# Altium footprint library 研发中心PCB库文件.PcbLib: 333 footprints (part 4 of 21)
Each footprint in its own frame and in the unit in brackets; x right, y up, seen from the top. Pads: shape width x height; smd on the part's side, far side on the other; paste and mask are expansions set on the pad; w line width, h text height; cw(c..) or ccw(c..) is an arc to the next point about the centre after c.
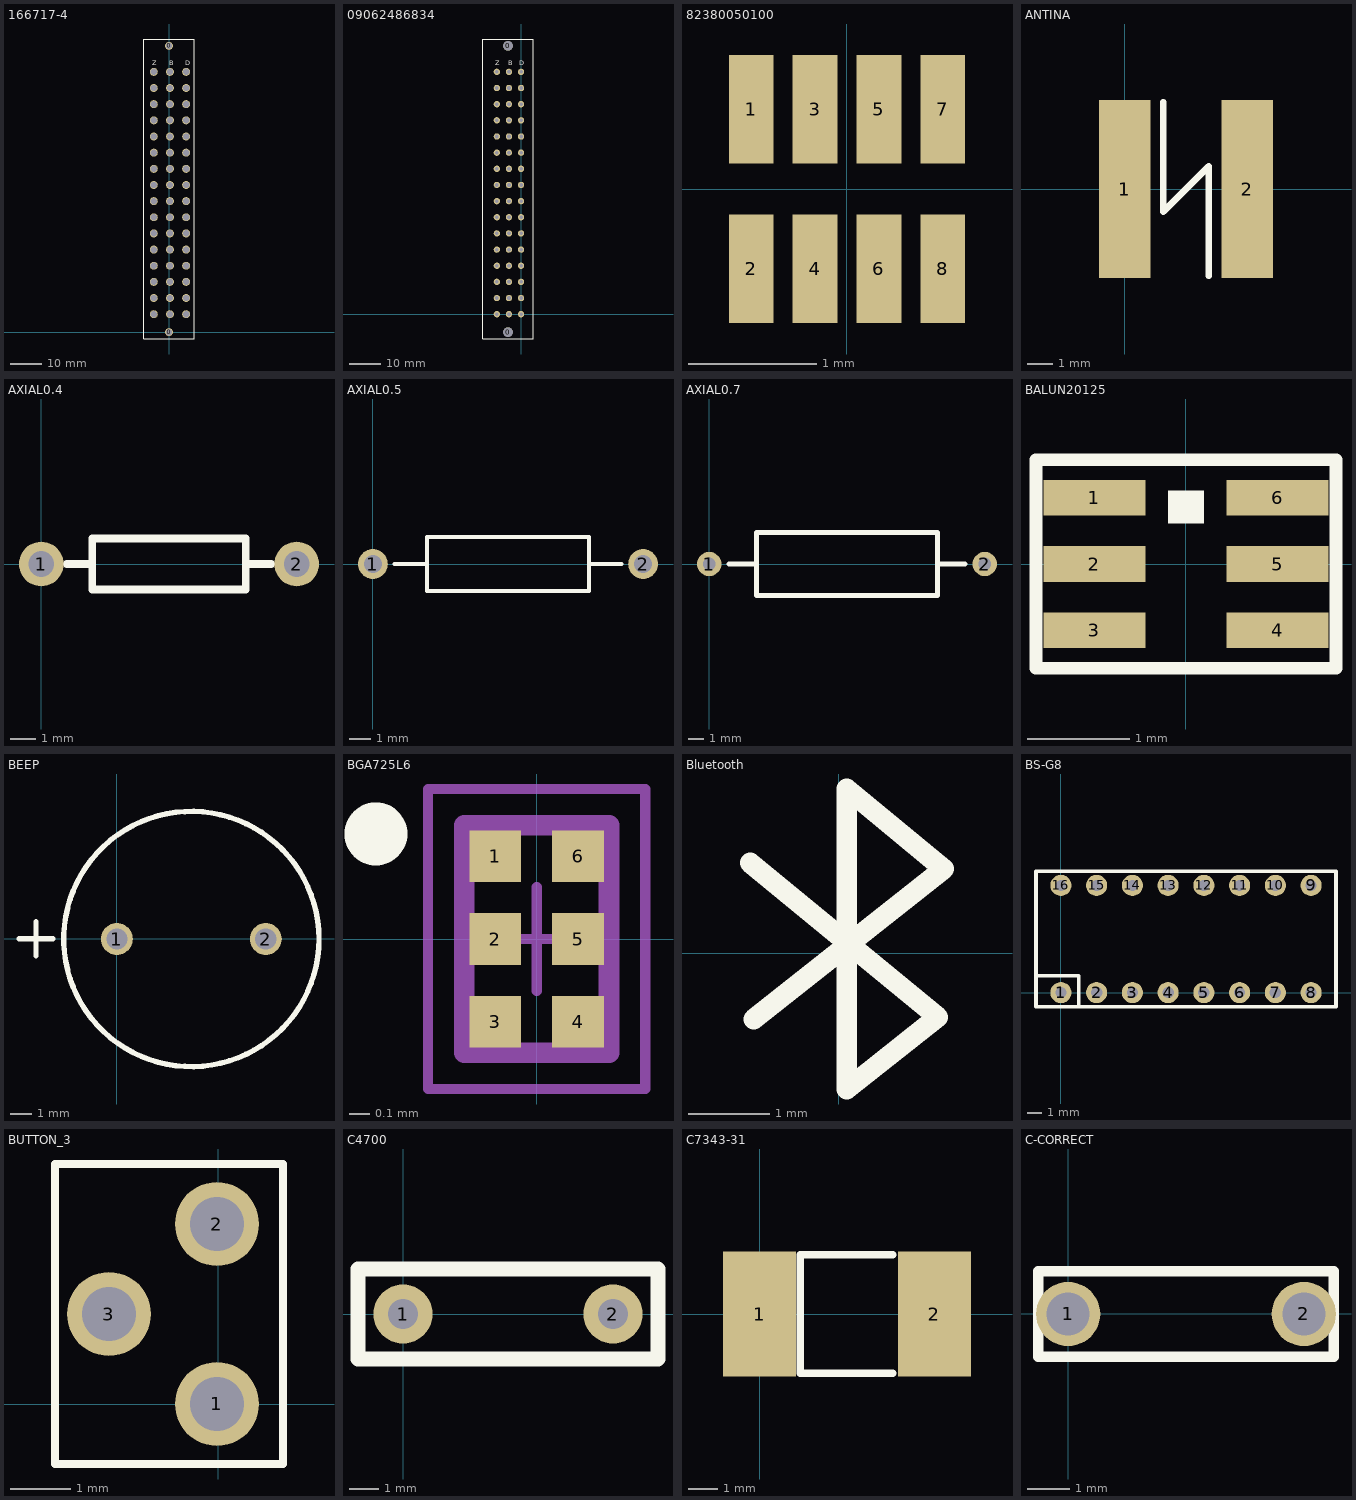
[diagram p3: the footprints below, top view; thin cyan lines are the x and y axes]

## 166717-4 [mm]
pads (50):
  round 2.5 hole 2: 0(0,0) 0(0,90) B2(0.3,81.83) B4(0.3,76.75) B6(0.3,71.67) B8(0.3,66.59) B10(0.3,61.51) B12(0.3,56.43) B14(0.3,51.35) B16(0.3,46.27) B18(0.3,41.19) B20(0.3,36.11) B22(0.3,31.03) B24(0.3,25.95) B26(0.3,20.87) B28(0.3,15.79) B30(0.3,10.71) B32(0.3,5.63) D2(5.38,81.83) D4(5.38,76.75) D6(5.38,71.67) D8(5.38,66.59) D10(5.38,61.51) D12(5.38,56.43) D14(5.38,51.35) D16(5.38,46.27) D18(5.38,41.19) D20(5.38,36.11) D22(5.38,31.03) D24(5.38,25.95) D26(5.38,20.87) D28(5.38,15.79) D30(5.38,10.71) D32(5.38,5.63) Z2(-4.78,81.83) Z4(-4.78,76.75) Z6(-4.78,71.67) Z8(-4.78,66.59) Z10(-4.78,61.51) Z12(-4.78,56.43) Z14(-4.78,51.35) Z16(-4.78,46.27) Z18(-4.78,41.19) Z20(-4.78,36.11) Z22(-4.78,31.03) Z24(-4.78,25.95) Z26(-4.78,20.87) Z28(-4.78,15.79) Z30(-4.78,10.71) Z32(-4.78,5.63)
Top Overlay:
  lines w0.254: -7.89,-2.17 -7.89,92.17 7.89,92.17 7.89,-2.17 -7.89,-2.17
  text "D" at 5.108,83.862 h1.52
  text "B" at 0.046,83.862 h1.52
  text "Z" at -5.288,83.862 h1.52

## 09062486834 [mm]
pads (50):
  round 3 hole 3: 0(-4.11,-5.63) 0(-4.11,84.37)
  round 2 hole 1.143: B2(-3.81,76.2) B4(-3.81,71.12) B6(-3.81,66.04) B8(-3.81,60.96) B10(-3.81,55.88) B12(-3.81,50.8) B14(-3.81,45.72) B16(-3.81,40.64) B18(-3.81,35.56) B20(-3.81,30.48) B22(-3.81,25.4) B24(-3.81,20.32) B26(-3.81,15.24) B28(-3.81,10.16) B30(-3.81,5.08) B32(-3.81,0) D2(0,76.2) D4(0,71.12) D6(0,66.04) D8(0,60.96) D10(0,55.88) D12(0,50.8) D14(0,45.72) D16(0,40.64) D18(0,35.56) D20(0,30.48) D22(0,25.4) D24(0,20.32) D26(0,15.24) D28(0,10.16) D30(0,5.08) D32(0,0) Z2(-7.62,76.2) Z4(-7.62,71.12) Z6(-7.62,66.04) Z8(-7.62,60.96) Z10(-7.62,55.88) Z12(-7.62,50.8) Z14(-7.62,45.72) Z16(-7.62,40.64) Z18(-7.62,35.56) Z20(-7.62,30.48) Z22(-7.62,25.4) Z24(-7.62,20.32) Z26(-7.62,15.24) Z28(-7.62,10.16) Z30(-7.62,5.08) Z32(-7.62,0)
Top Overlay:
  lines w0.254: -12,-7.8 3.78,-7.8 3.78,86.54 -12,86.54 -12,-7.8
  text "Z" at -8.128,78.232 h1.52
  text "B" at -4.064,78.232 h1.52
  text "D" at -0.508,78.232 h1.52

## 82380050100 [mm]
pads (8):
  rect 0.35x0.85 smd: 1(-0.75,0.625) 2(-0.75,-0.625) 3(-0.25,0.625) 4(-0.25,-0.625) 5(0.25,0.625) 6(0.25,-0.625) 7(0.75,0.625) 8(0.75,-0.625)

## ANTINA [mil]
pads (2):
  rect 80x275.59 smd: 1(0,0) 2(190,0)
Top Overlay:
  lines w10: 60,135 60,0 60,-35 130,35 130,-135

## AXIAL0.4 [mil]
pads (2):
  round 70 hole 40: 1(0,0) 2(400,0)
Top Overlay:
  lines w12: 40,0 80,0 ; 320,0 360,0 ; 80,-40 320,-40 320,40 80,40 80,-40

## AXIAL0.5 [mm]
pads (2):
  round 1.4 hole 0.85: 1(0,0) 2(12.7,0)
Top Overlay:
  lines w0.2: 1.016,0 2.54,0 ; 10.16,0 11.684,0 ; 2.54,-1.27 2.54,1.27 10.16,1.27 10.16,-1.27 2.54,-1.27

## AXIAL0.7 [mil]
pads (2):
  round 62 hole 32: 1(0,0) 2(700,0)
Top Overlay:
  lines w12: 50,0 120,0 ; 580,0 650,0 ; 120,-80 580,-80 580,80 120,80 120,-80

## BALUN20125 [mm]
pads (6):
  rect 1x0.35 smd: 1(-0.9,0.65) 2(-0.9,0) 3(-0.9,-0.65) 4(0.9,-0.65) 5(0.9,0) 6(0.9,0.65)
Top Overlay:
  rectangle: -0.175,0.4 0.175,0.725
  lines w0.127: -1.475,-1.025 -1.475,1.025 1.475,1.025 1.475,-1.025 -1.475,-1.025

## BEEP [mm]
pads (2):
  round 1.5 hole 1: 1(0.004,-0.004) 2(7.004,-0.004)
Top Overlay:
  circle w0.254: c3.504,-0.004 r6
  lines w0.254: -4.6,0 -3,0 ; -3.8,-0.8 -3.8,0.8

## BGA725L6 [mm]
pads (6):
  rect 0.25x0.25 smd: 1(-0.2,0.4) 2(-0.2,0) 3(-0.2,-0.4) 4(0.2,-0.4) 5(0.2,0) 6(0.2,0.4)
Top Overlay:
  circle w0.254: c-0.777,0.508 r0.025
Mechanical 13:
  lines w0.1: -0.35,-0.55 0.35,-0.55 0.35,0.55 -0.35,0.55 -0.35,-0.55
Mechanical 15:
  lines w0.05: -0.25,0 0.25,0 ; 0,-0.25 0,0.25 ; -0.525,-0.725 0.525,-0.725 0.525,0.725 -0.525,0.725 -0.525,-0.725
3D body: height 0.4, standoff 0, extent -0.35,-0.55 0.35,0.55

## Bluetooth [mm]
Top Overlay:
  lines w0.254: -1.09,1.115 1.219,-0.787 0.102,-1.672 0.102,2.025 1.295,1.041 -1.048,-0.811

## BS-G8 [mm]
pads (16):
  round 1.5 hole 0.8: 1(0,0) 2(2.54,0) 3(5.08,0) 4(7.62,0) 5(10.16,0) 6(12.7,0) 7(15.24,0) 8(17.78,0) 9(17.78,7.62) 10(15.24,7.62) 11(12.7,7.62) 12(10.16,7.62) 13(7.62,7.62) 14(5.08,7.62) 15(2.54,7.62) 16(0,7.62)
Top Overlay:
  lines w0.254: -1.77,1.194 1.27,1.194 1.27,-0.991 ; 19.55,-0.99 19.55,8.61 -1.77,8.61 -1.77,-0.99 19.55,-0.989

## BUTTON_3 [mm]
pads (3):
  round 1.4 hole 0.9: 1(-0.024,0.002) 2(-0.024,3.002) 3(-1.824,1.502)
Top Overlay:
  lines w0.127: -2.724,-0.998 -2.724,4.002 1.076,4.002 1.076,-0.998 -2.724,-0.998

## C4700 [mm]
pads (2):
  round 2 hole 1: 1(0,0) 2(7.112,0)
Top Overlay:
  lines w0.5: -1.524,-1.524 -1.524,1.524 8.636,1.524 8.636,-1.524 -1.524,-1.524

## C7343-31 [mm]
pads (2):
  rect 2.5x4.3 smd: 1(0,0) 2(6,0)
Top Overlay:
  lines w0.254: 4.572,-2.032 1.397,-2.032 1.397,2.032 4.572,2.032

## C-CORRECT [mil]
pads (2):
  round 60 hole 40: 1(0,0) 2(220,0)
Top Overlay:
  lines w10: -28,-40 248,-40 248,40 -28,40 -28,-40